# EAGLE library part CON24P2R (library ads4)
24-pin dual-row connector
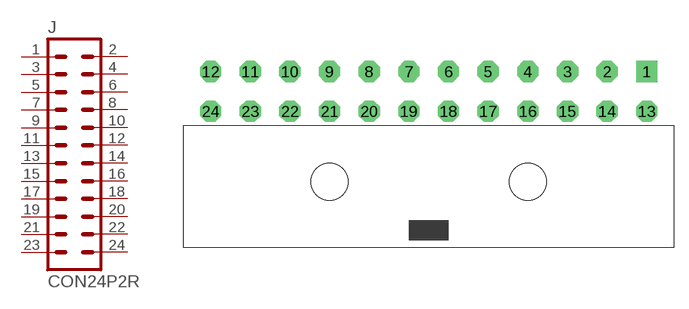
[diagram p53: symbol with the pads of AMP794108; footprint AMP794108]

Designator prefix J

## CON24P2R794108  [AMP794108]
1  1  pas
2  2  pas
3  3  pas
4  4  pas
5  5  pas
6  6  pas
7  7  pas
8  8  pas
9  9  pas
10  10  pas
11  11  pas
12  12  pas
13  13  pas
14  14  pas
15  15  pas
16  16  pas
17  17  pas
18  18  pas
19  19  pas
20  20  pas
21  21  pas
22  22  pas
23  23  pas
24  24  pas

## Footprint AMP794108 (pad centres in mm)
AMP 794108 24-pin 4.14mm dual-row right-angle PCB header
drill 1.48 square: 1 0,0
drill 1.48 octagon: 2 -4.14,0; 3 -8.28,0; 4 -12.42,0; 5 -16.56,0; 6 -20.7,0; 7 -24.84,0; 8 -28.98,0; 9 -33.12,0; 10 -37.26,0; 11 -41.4,0; 12 -45.54,0; 13 0,-4.14; 14 -4.14,-4.14; 15 -8.28,-4.14; 16 -12.42,-4.14; 17 -16.56,-4.14; 18 -20.7,-4.14; 19 -24.84,-4.14; 20 -28.98,-4.14; 21 -33.12,-4.14; 22 -37.26,-4.14; 23 -41.4,-4.14; 24 -45.54,-4.14
hole 3.86 at -12.419,-11.48
hole 3.86 at -33.121,-11.48